# EAGLE library part SCM-40 (library sakuraio)
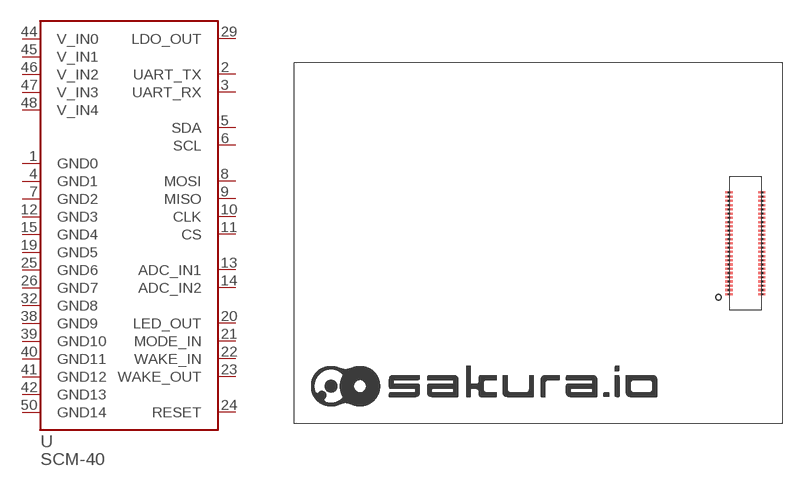
[diagram p0: symbol with the pads of SCM-DF40-50DS; footprint SCM-DF40-50DS]

Designator prefix -

## SCM-40  [SCM-DF40-50DS]
1  GND0  pwr
2  UART_TX  out
3  UART_RX  in
4  GND1  pwr
5  SDA
6  SCL
7  GND2  pwr
8  MOSI
9  MISO
10  CLK
11  CS
12  GND3  pwr
13  ADC_IN1  in
14  ADC_IN2  in
15  GND4  pwr
19  GND5  pwr
20  LED_OUT  out
21  MODE_IN  in
22  WAKE_IN  in
23  WAKE_OUT  out
24  RESET  in
25  GND6  pwr
26  GND7  pwr
29  LDO_OUT  sup
32  GND8  pwr
38  GND9  pwr
39  GND10  pwr
40  GND11  pwr
41  GND12  pwr
42  GND13  pwr
44  V_IN0  pwr
45  V_IN1  pwr
46  V_IN2  pwr
47  V_IN3  pwr
48  V_IN4  pwr
50  GND14  pwr

## Footprint SCM-DF40-50DS (pad centres in mm)
smd 0.7 x 0.2: 1 -1.54,-4.8; 2 -1.54,-4.4; 3 -1.54,-4; 4 -1.54,-3.6; 5 -1.54,-3.2; 6 -1.54,-2.8; 7 -1.54,-2.4; 8 -1.54,-2; 9 -1.54,-1.6; 10 -1.54,-1.2; 11 -1.54,-0.8; 12 -1.54,-0.4; 13 -1.54,0; 14 -1.54,0.4; 15 -1.54,0.8; 16 -1.54,1.2; 17 -1.54,1.6; 18 -1.54,2; 19 -1.54,2.4; 20 -1.54,2.8; 21 -1.54,3.2; 22 -1.54,3.6; 23 -1.54,4; 24 -1.54,4.4; 25 -1.54,4.8; 26 1.54,4.8; 27 1.54,4.4; 28 1.54,4; 29 1.54,3.6; 30 1.54,3.2; 31 1.54,2.8; 32 1.54,2.4; 33 1.54,2; 34 1.54,1.6; 35 1.54,1.2; 36 1.54,0.8; 37 1.54,0.4; 38 1.54,0; 39 1.54,-0.4; 40 1.54,-0.8; 41 1.54,-1.2; 42 1.54,-1.6; 43 1.54,-2; 44 1.54,-2.4; 45 1.54,-2.8; 46 1.54,-3.2; 47 1.54,-3.6; 48 1.54,-4; 49 1.54,-4.4; 50 1.54,-4.8